# Altium footprint library USB_A.PcbLib: 1 footprints
Each footprint in its own frame and in the unit in brackets; x right, y up, seen from the top. Pads: shape width x height; smd on the part's side, far side on the other; paste and mask are expansions set on the pad; w line width, h text height; cw(c..) or ccw(c..) is an arc to the next point about the centre after c.
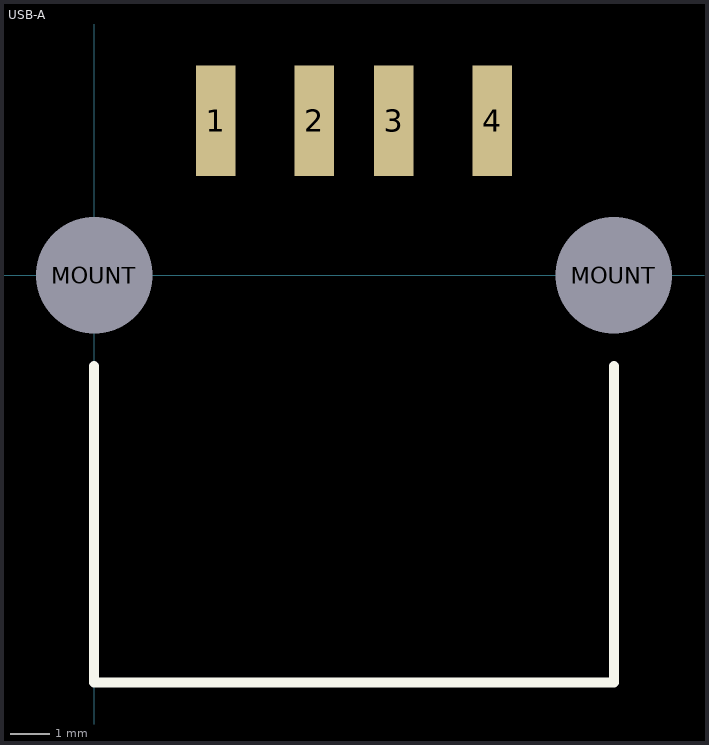
[diagram p0: the footprint, top view; thin cyan lines are the x and y axes]

## USB-A [mm] "USB-A SMT Connector"
height 7.12
pads (6):
  rect 1x2.8 smd: 1(3.07,3.9) 2(5.57,3.9) 3(7.57,3.9) 4(10.07,3.9)
  round 2.3 hole 2.946: MOUNT(0,0) MOUNT(13.14,0)
Top Overlay:
  lines w0.254: 0,-2.3 0,-10.3 13.14,-10.3 13.14,-2.3
3D body: height 7.12, standoff -4.19, extent -1.25,-10.4 14.45,4.75